# Altium integrated library Analog Devices Data Converters Analog-to-Digital Converters.IntLib: 2400 symbols (part 205 of 338)
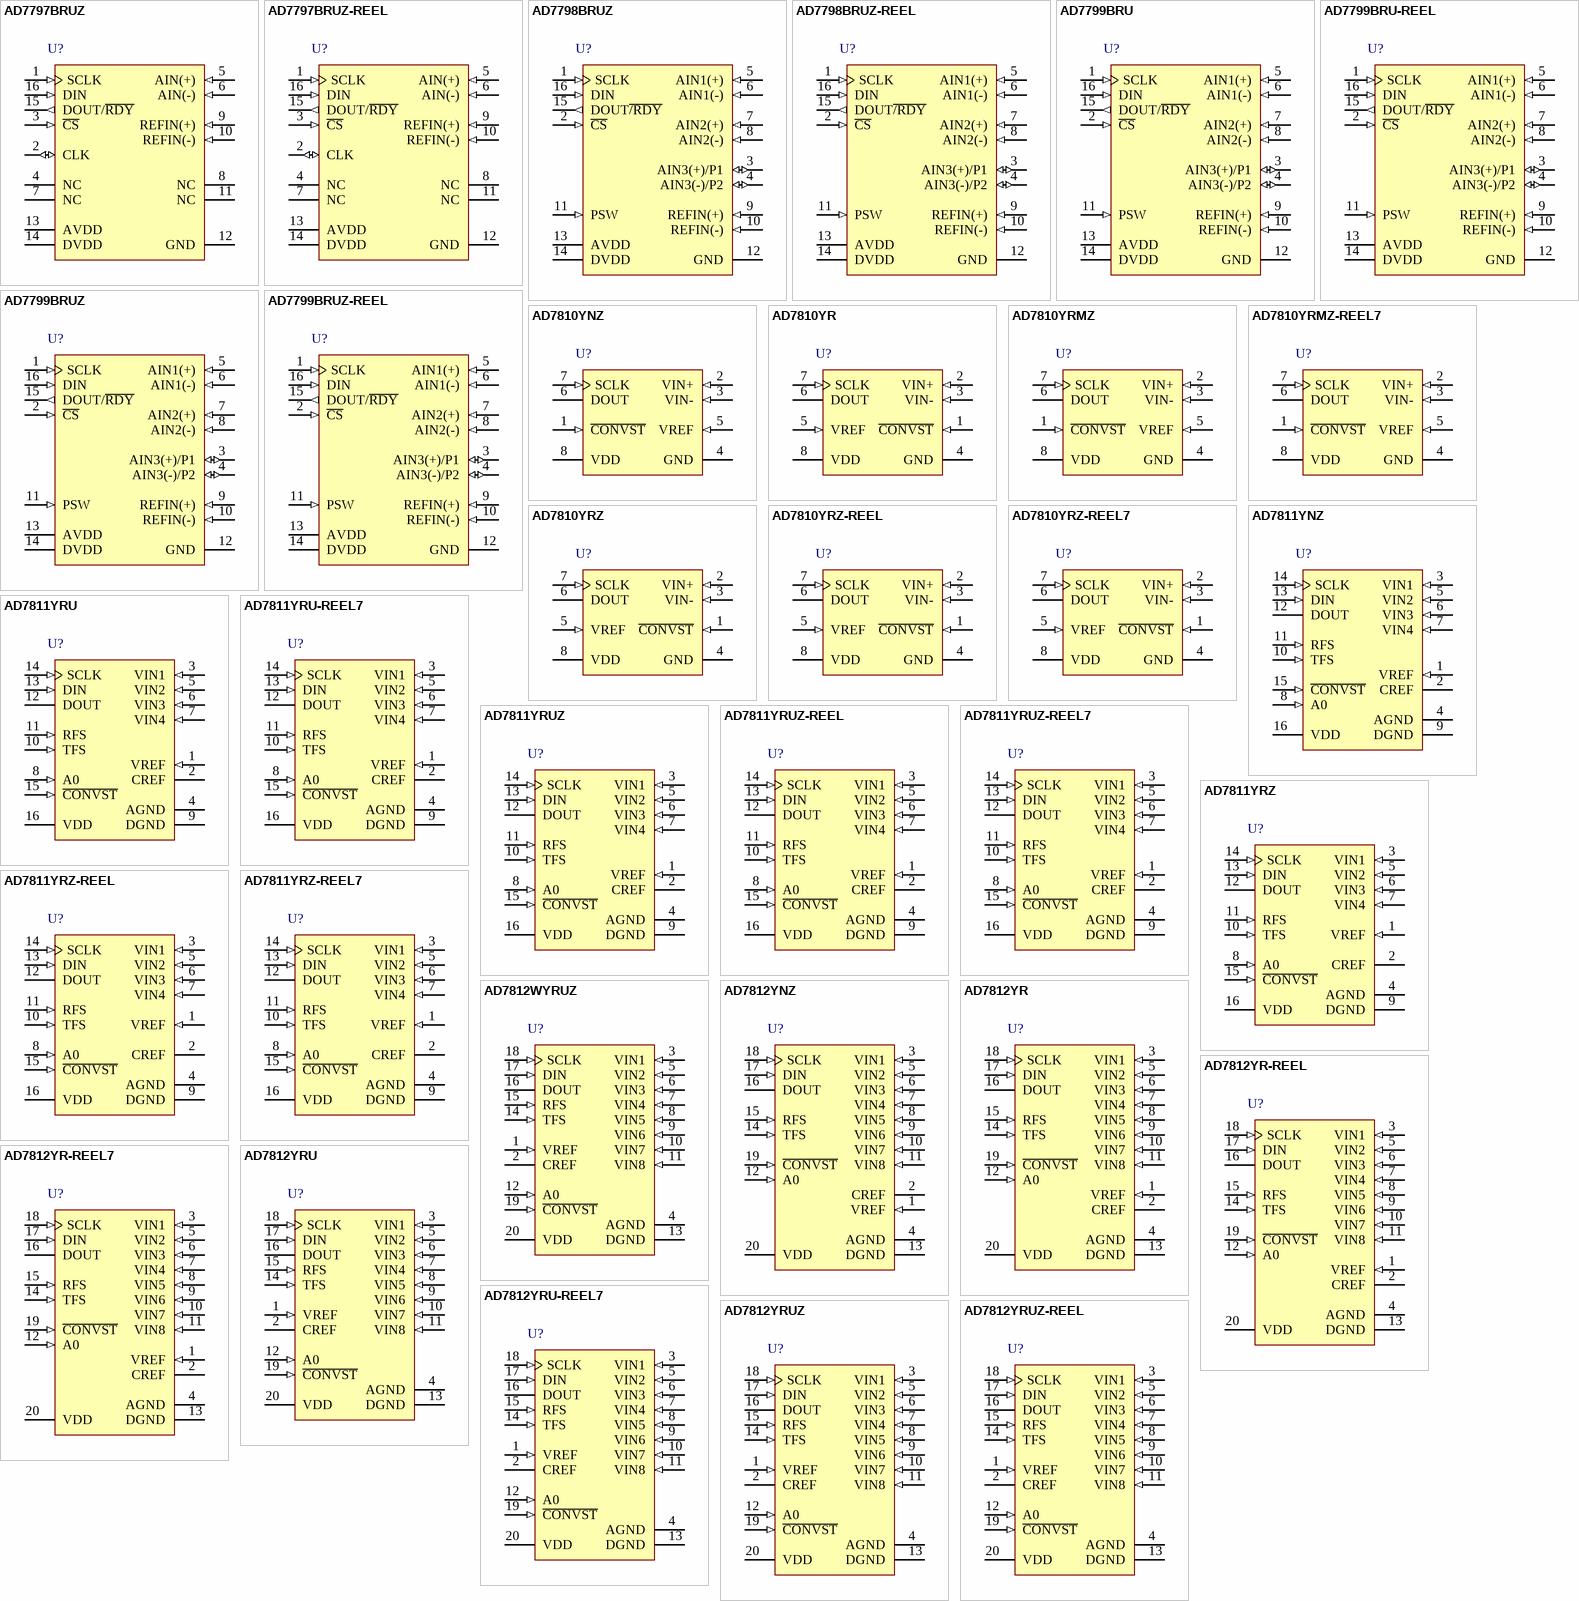
[diagram p268: symbols AD7797BRUZ to AD7812YRUZ-REEL]

## AD7811YRU
designator U?
Quad 10-Bit Sampling Analog-to-Digital Converter with Serial Interface, 2.7 V to 5.5 V, 350KSPS, -40 to +105 degC, RU-16, Tube; Part Number: AD7811; Manufacturer: Analog Devices; Resolution (Bits): 10; Channels: 4; Throughput Rate (SPS): 350K; Interface: Ser; DatasheetVersion: Rev.B; PackageVersion: Nov-2002; PackageReference: RU-16; PackageDescription: 16-Lead Thin Shrink Small Outline Package [TSSOP]; RoHS: N; Packing: Tube; Mounting Technology: Surface Mount; Code_JEDEC: MO-153-AB; ComponentLink1Description: Manufacturer URL; ComponentLink1URL: http://www.analog.com/en/index.html; ComponentLink2Description: Datasheet; ComponentLink2URL: http://www.analog.com/static/imported-files/data_sheets/AD7811_7812.pdf; ComponentLink3Description: Package Specification; ComponentLink3URL: http://www.analog.com/static/imported-files/packages/36244347913743854010197452789RU16.pdf; ComponentLink4Description: Product URL; ComponentLink4URL: http://www.analog.com/en/analog-to-digital-converters/ad-converters/ad7811/products/product.html
footprint RU-16_N (TSOP, 16-Leads, Body 5x4.4mm, Pitch 0.65mm, IPC Medium Density)
footprint RU-16_L (TSOP, 16-Leads, Body 5x4.4mm, Pitch 0.65mm, IPC High Density)
footprint RU-16_M (TSOP, 16-Leads, Body 5x4.4mm, Pitch 0.65mm, IPC Low Density)
pins: 1 VREF (in) "An external reference input can be applied here. When using an external precision reference or VDD the EXTREF bit in the control register must be set to logic one. The external reference input range is 1.2 V to VDD.", 2 CREF "Reference Capacitor. A capacitor (10 nF) is connected here to improve the noise performance of the on-chip reference.", 3 VIN1 (in) "Analog Inputs. The analog input range is 0 V to VREF.", 4 AGND (power) "Analog Ground. Ground reference for track/hold, comparator, on-chip reference and DAC.", 5 VIN2 (in) "Analog Inputs. The analog input range is 0 V to VREF.", 6 VIN3 (in) "Analog Inputs. The analog input range is 0 V to VREF.", 7 VIN4 (in) "Analog Inputs. The analog input range is 0 V to VREF.", 8 A0 (in) "Package Address Pin. This Logic Input can be hardwired high or low. When used in conjunction with the package address bit in the control register this input allows two devices to share the same serial bus. For example a (See Datasheet)", 9 DGND (power) "Digital Ground. Ground reference for digital circuitry.", 10 TFS (in) "Transmit Frame Sync. The falling edge of this Logic Input tells the part that a new control byte should be shifted in on the next 10 falling edges of SCLK.", 11 RFS (in) "Receive Frame Sync. The rising edge of this Logic Input is used to enable a counter in the serial interface. It is used to provide compatibility with DSPs which use a continuous serial clock and framing signal. In (See Datasheet)", 12 DOUT (hiz) "Serial Data Output. Serial data is shifted out on this pin on the rising edge of the serial clock. The output enters a High impedance condition on the rising edge of the 11th SCLK pulse.", 13 DIN (in) "Serial Data Input. The control byte is read in at this input. In order to complete a serial write operation 13 SCLK pulses need to be provided. Only the first 10 bits are shifted in--see Serial Interface section.", 14 SCLK (in) "Serial Clock Input. An external serial clock is applied to this input to obtain serial data from the AD7811/AD7812  and also to latch data into the AD7811/AD7812. Data is clocked out on the rising edge of SCLK and latched in (See Datasheet)", 15 ~{CONVST} (in) "Convert Start. This is an edge triggered logic input. The Track/Hold goes into its Hold Mode on the falling edge of this signal and a conversion is initiated. The state of this pin at the end of conversion also determines (See Datasheet)", 16 VDD (power) "Positive Supply Voltage 2.7 V to 5.5 V."

## AD7811YRU-REEL7
designator U?
Quad 10-Bit Sampling Analog-to-Digital Converter with Serial Interface, 2.7 V to 5.5 V, 350KSPS, -40 to +105 degC, RU-16, Reel; Part Number: AD7811; Manufacturer: Analog Devices; Resolution (Bits): 10; Channels: 4; Throughput Rate (SPS): 350K; Interface: Ser; DatasheetVersion: Rev.B; PackageVersion: Nov-2002; PackageReference: RU-16; PackageDescription: 16-Lead Thin Shrink Small Outline Package [TSSOP]; RoHS: N; Packing: Reel; Mounting Technology: Surface Mount; Code_JEDEC: MO-153-AB; ComponentLink1Description: Manufacturer URL; ComponentLink1URL: http://www.analog.com/en/index.html; ComponentLink2Description: Datasheet; ComponentLink2URL: http://www.analog.com/static/imported-files/data_sheets/AD7811_7812.pdf; ComponentLink3Description: Package Specification; ComponentLink3URL: http://www.analog.com/static/imported-files/packages/36244347913743854010197452789RU16.pdf; ComponentLink4Description: Product URL; ComponentLink4URL: http://www.analog.com/en/analog-to-digital-converters/ad-converters/ad7811/products/product.html
footprint RU-16_N (TSOP, 16-Leads, Body 5x4.4mm, Pitch 0.65mm, IPC Medium Density)
footprint RU-16_L (TSOP, 16-Leads, Body 5x4.4mm, Pitch 0.65mm, IPC High Density)
footprint RU-16_M (TSOP, 16-Leads, Body 5x4.4mm, Pitch 0.65mm, IPC Low Density)
pins: 1 VREF (in) "An external reference input can be applied here. When using an external precision reference or VDD the EXTREF bit in the control register must be set to logic one. The external reference input range is 1.2 V to VDD.", 2 CREF "Reference Capacitor. A capacitor (10 nF) is connected here to improve the noise performance of the on-chip reference.", 3 VIN1 (in) "Analog Inputs. The analog input range is 0 V to VREF.", 4 AGND (power) "Analog Ground. Ground reference for track/hold, comparator, on-chip reference and DAC.", 5 VIN2 (in) "Analog Inputs. The analog input range is 0 V to VREF.", 6 VIN3 (in) "Analog Inputs. The analog input range is 0 V to VREF.", 7 VIN4 (in) "Analog Inputs. The analog input range is 0 V to VREF.", 8 A0 (in) "Package Address Pin. This Logic Input can be hardwired high or low. When used in conjunction with the package address bit in the control register this input allows two devices to share the same serial bus. For example a (See Datasheet)", 9 DGND (power) "Digital Ground. Ground reference for digital circuitry.", 10 TFS (in) "Transmit Frame Sync. The falling edge of this Logic Input tells the part that a new control byte should be shifted in on the next 10 falling edges of SCLK.", 11 RFS (in) "Receive Frame Sync. The rising edge of this Logic Input is used to enable a counter in the serial interface. It is used to provide compatibility with DSPs which use a continuous serial clock and framing signal. In (See Datasheet)", 12 DOUT (hiz) "Serial Data Output. Serial data is shifted out on this pin on the rising edge of the serial clock. The output enters a High impedance condition on the rising edge of the 11th SCLK pulse.", 13 DIN (in) "Serial Data Input. The control byte is read in at this input. In order to complete a serial write operation 13 SCLK pulses need to be provided. Only the first 10 bits are shifted in--see Serial Interface section.", 14 SCLK (in) "Serial Clock Input. An external serial clock is applied to this input to obtain serial data from the AD7811/AD7812  and also to latch data into the AD7811/AD7812. Data is clocked out on the rising edge of SCLK and latched in (See Datasheet)", 15 ~{CONVST} (in) "Convert Start. This is an edge triggered logic input. The Track/Hold goes into its Hold Mode on the falling edge of this signal and a conversion is initiated. The state of this pin at the end of conversion also determines (See Datasheet)", 16 VDD (power) "Positive Supply Voltage 2.7 V to 5.5 V."

## AD7811YRUZ
designator U?
Quad 10-Bit Sampling Analog-to-Digital Converter with Serial Interface, 2.7 V to 5.5 V, 350KSPS, -40 to +105 degC, RU-16, Pb-Free, Tube; Part Number: AD7811; Manufacturer: Analog Devices; Resolution (Bits): 10; Channels: 4; Throughput Rate (SPS): 350K; Interface: Ser; DatasheetVersion: Rev.B; PackageVersion: Nov-2002; PackageReference: RU-16; PackageDescription: 16-Lead Thin Shrink Small Outline Package [TSSOP]; RoHS: Y; Packing: Tube; Mounting Technology: Surface Mount; Code_JEDEC: MO-153-AB; ComponentLink1Description: Manufacturer URL; ComponentLink1URL: http://www.analog.com/en/index.html; ComponentLink2Description: Datasheet; ComponentLink2URL: http://www.analog.com/static/imported-files/data_sheets/AD7811_7812.pdf; ComponentLink3Description: Package Specification; ComponentLink3URL: http://www.analog.com/static/imported-files/packages/36244347913743854010197452789RU16.pdf; ComponentLink4Description: Product URL; ComponentLink4URL: http://www.analog.com/en/analog-to-digital-converters/ad-converters/ad7811/products/product.html
footprint RU-16_N (TSOP, 16-Leads, Body 5x4.4mm, Pitch 0.65mm, IPC Medium Density)
footprint RU-16_L (TSOP, 16-Leads, Body 5x4.4mm, Pitch 0.65mm, IPC High Density)
footprint RU-16_M (TSOP, 16-Leads, Body 5x4.4mm, Pitch 0.65mm, IPC Low Density)
pins: 1 VREF (in) "An external reference input can be applied here. When using an external precision reference or VDD the EXTREF bit in the control register must be set to logic one. The external reference input range is 1.2 V to VDD.", 2 CREF "Reference Capacitor. A capacitor (10 nF) is connected here to improve the noise performance of the on-chip reference.", 3 VIN1 (in) "Analog Inputs. The analog input range is 0 V to VREF.", 4 AGND (power) "Analog Ground. Ground reference for track/hold, comparator, on-chip reference and DAC.", 5 VIN2 (in) "Analog Inputs. The analog input range is 0 V to VREF.", 6 VIN3 (in) "Analog Inputs. The analog input range is 0 V to VREF.", 7 VIN4 (in) "Analog Inputs. The analog input range is 0 V to VREF.", 8 A0 (in) "Package Address Pin. This Logic Input can be hardwired high or low. When used in conjunction with the package address bit in the control register this input allows two devices to share the same serial bus. For example a (See Datasheet)", 9 DGND (power) "Digital Ground. Ground reference for digital circuitry.", 10 TFS (in) "Transmit Frame Sync. The falling edge of this Logic Input tells the part that a new control byte should be shifted in on the next 10 falling edges of SCLK.", 11 RFS (in) "Receive Frame Sync. The rising edge of this Logic Input is used to enable a counter in the serial interface. It is used to provide compatibility with DSPs which use a continuous serial clock and framing signal. In (See Datasheet)", 12 DOUT (hiz) "Serial Data Output. Serial data is shifted out on this pin on the rising edge of the serial clock. The output enters a High impedance condition on the rising edge of the 11th SCLK pulse.", 13 DIN (in) "Serial Data Input. The control byte is read in at this input. In order to complete a serial write operation 13 SCLK pulses need to be provided. Only the first 10 bits are shifted in--see Serial Interface section.", 14 SCLK (in) "Serial Clock Input. An external serial clock is applied to this input to obtain serial data from the AD7811/AD7812  and also to latch data into the AD7811/AD7812. Data is clocked out on the rising edge of SCLK and latched in (See Datasheet)", 15 ~{CONVST} (in) "Convert Start. This is an edge triggered logic input. The Track/Hold goes into its Hold Mode on the falling edge of this signal and a conversion is initiated. The state of this pin at the end of conversion also determines (See Datasheet)", 16 VDD (power) "Positive Supply Voltage 2.7 V to 5.5 V."

## AD7811YRUZ-REEL
designator U?
Quad 10-Bit Sampling Analog-to-Digital Converter with Serial Interface, 2.7 V to 5.5 V, 350KSPS, -40 to +105 degC, RU-16, Pb-Free, Reel; Part Number: AD7811; Manufacturer: Analog Devices; Resolution (Bits): 10; Channels: 4; Throughput Rate (SPS): 350K; Interface: Ser; DatasheetVersion: Rev.B; PackageVersion: Nov-2002; PackageReference: RU-16; PackageDescription: 16-Lead Thin Shrink Small Outline Package [TSSOP]; RoHS: Y; Packing: Reel; Mounting Technology: Surface Mount; Code_JEDEC: MO-153-AB; ComponentLink1Description: Manufacturer URL; ComponentLink1URL: http://www.analog.com/en/index.html; ComponentLink2Description: Datasheet; ComponentLink2URL: http://www.analog.com/static/imported-files/data_sheets/AD7811_7812.pdf; ComponentLink3Description: Package Specification; ComponentLink3URL: http://www.analog.com/static/imported-files/packages/36244347913743854010197452789RU16.pdf; ComponentLink4Description: Product URL; ComponentLink4URL: http://www.analog.com/en/analog-to-digital-converters/ad-converters/ad7811/products/product.html
footprint RU-16_N (TSOP, 16-Leads, Body 5x4.4mm, Pitch 0.65mm, IPC Medium Density)
footprint RU-16_L (TSOP, 16-Leads, Body 5x4.4mm, Pitch 0.65mm, IPC High Density)
footprint RU-16_M (TSOP, 16-Leads, Body 5x4.4mm, Pitch 0.65mm, IPC Low Density)
pins: 1 VREF (in) "An external reference input can be applied here. When using an external precision reference or VDD the EXTREF bit in the control register must be set to logic one. The external reference input range is 1.2 V to VDD.", 2 CREF "Reference Capacitor. A capacitor (10 nF) is connected here to improve the noise performance of the on-chip reference.", 3 VIN1 (in) "Analog Inputs. The analog input range is 0 V to VREF.", 4 AGND (power) "Analog Ground. Ground reference for track/hold, comparator, on-chip reference and DAC.", 5 VIN2 (in) "Analog Inputs. The analog input range is 0 V to VREF.", 6 VIN3 (in) "Analog Inputs. The analog input range is 0 V to VREF.", 7 VIN4 (in) "Analog Inputs. The analog input range is 0 V to VREF.", 8 A0 (in) "Package Address Pin. This Logic Input can be hardwired high or low. When used in conjunction with the package address bit in the control register this input allows two devices to share the same serial bus. For example a (See Datasheet)", 9 DGND (power) "Digital Ground. Ground reference for digital circuitry.", 10 TFS (in) "Transmit Frame Sync. The falling edge of this Logic Input tells the part that a new control byte should be shifted in on the next 10 falling edges of SCLK.", 11 RFS (in) "Receive Frame Sync. The rising edge of this Logic Input is used to enable a counter in the serial interface. It is used to provide compatibility with DSPs which use a continuous serial clock and framing signal. In (See Datasheet)", 12 DOUT (hiz) "Serial Data Output. Serial data is shifted out on this pin on the rising edge of the serial clock. The output enters a High impedance condition on the rising edge of the 11th SCLK pulse.", 13 DIN (in) "Serial Data Input. The control byte is read in at this input. In order to complete a serial write operation 13 SCLK pulses need to be provided. Only the first 10 bits are shifted in--see Serial Interface section.", 14 SCLK (in) "Serial Clock Input. An external serial clock is applied to this input to obtain serial data from the AD7811/AD7812  and also to latch data into the AD7811/AD7812. Data is clocked out on the rising edge of SCLK and latched in (See Datasheet)", 15 ~{CONVST} (in) "Convert Start. This is an edge triggered logic input. The Track/Hold goes into its Hold Mode on the falling edge of this signal and a conversion is initiated. The state of this pin at the end of conversion also determines (See Datasheet)", 16 VDD (power) "Positive Supply Voltage 2.7 V to 5.5 V."

## AD7811YRUZ-REEL7
designator U?
Quad 10-Bit Sampling Analog-to-Digital Converter with Serial Interface, 2.7 V to 5.5 V, 350KSPS, -40 to +105 degC, RU-16, Pb-Free, Reel; Part Number: AD7811; Manufacturer: Analog Devices; Resolution (Bits): 10; Channels: 4; Throughput Rate (SPS): 350K; Interface: Ser; DatasheetVersion: Rev.B; PackageVersion: Nov-2002; PackageReference: RU-16; PackageDescription: 16-Lead Thin Shrink Small Outline Package [TSSOP]; RoHS: Y; Packing: Reel; Mounting Technology: Surface Mount; Code_JEDEC: MO-153-AB; ComponentLink1Description: Manufacturer URL; ComponentLink1URL: http://www.analog.com/en/index.html; ComponentLink2Description: Datasheet; ComponentLink2URL: http://www.analog.com/static/imported-files/data_sheets/AD7811_7812.pdf; ComponentLink3Description: Package Specification; ComponentLink3URL: http://www.analog.com/static/imported-files/packages/36244347913743854010197452789RU16.pdf; ComponentLink4Description: Product URL; ComponentLink4URL: http://www.analog.com/en/analog-to-digital-converters/ad-converters/ad7811/products/product.html
footprint RU-16_N (TSOP, 16-Leads, Body 5x4.4mm, Pitch 0.65mm, IPC Medium Density)
footprint RU-16_L (TSOP, 16-Leads, Body 5x4.4mm, Pitch 0.65mm, IPC High Density)
footprint RU-16_M (TSOP, 16-Leads, Body 5x4.4mm, Pitch 0.65mm, IPC Low Density)
pins: 1 VREF (in) "An external reference input can be applied here. When using an external precision reference or VDD the EXTREF bit in the control register must be set to logic one. The external reference input range is 1.2 V to VDD.", 2 CREF "Reference Capacitor. A capacitor (10 nF) is connected here to improve the noise performance of the on-chip reference.", 3 VIN1 (in) "Analog Inputs. The analog input range is 0 V to VREF.", 4 AGND (power) "Analog Ground. Ground reference for track/hold, comparator, on-chip reference and DAC.", 5 VIN2 (in) "Analog Inputs. The analog input range is 0 V to VREF.", 6 VIN3 (in) "Analog Inputs. The analog input range is 0 V to VREF.", 7 VIN4 (in) "Analog Inputs. The analog input range is 0 V to VREF.", 8 A0 (in) "Package Address Pin. This Logic Input can be hardwired high or low. When used in conjunction with the package address bit in the control register this input allows two devices to share the same serial bus. For example a (See Datasheet)", 9 DGND (power) "Digital Ground. Ground reference for digital circuitry.", 10 TFS (in) "Transmit Frame Sync. The falling edge of this Logic Input tells the part that a new control byte should be shifted in on the next 10 falling edges of SCLK.", 11 RFS (in) "Receive Frame Sync. The rising edge of this Logic Input is used to enable a counter in the serial interface. It is used to provide compatibility with DSPs which use a continuous serial clock and framing signal. In (See Datasheet)", 12 DOUT (hiz) "Serial Data Output. Serial data is shifted out on this pin on the rising edge of the serial clock. The output enters a High impedance condition on the rising edge of the 11th SCLK pulse.", 13 DIN (in) "Serial Data Input. The control byte is read in at this input. In order to complete a serial write operation 13 SCLK pulses need to be provided. Only the first 10 bits are shifted in--see Serial Interface section.", 14 SCLK (in) "Serial Clock Input. An external serial clock is applied to this input to obtain serial data from the AD7811/AD7812  and also to latch data into the AD7811/AD7812. Data is clocked out on the rising edge of SCLK and latched in (See Datasheet)", 15 ~{CONVST} (in) "Convert Start. This is an edge triggered logic input. The Track/Hold goes into its Hold Mode on the falling edge of this signal and a conversion is initiated. The state of this pin at the end of conversion also determines (See Datasheet)", 16 VDD (power) "Positive Supply Voltage 2.7 V to 5.5 V."

## AD7811YRZ
designator U?
Quad 10-Bit Sampling Analog-to-Digital Converter with Serial Interface, 2.7 V to 5.5 V, 350KSPS, -40 to +105 degC, R-16, Pb-Free, Tube; Part Number: AD7811; Manufacturer: Analog Devices; Resolution (Bits): 10; Channels: 4; Throughput Rate (SPS): 350K; Interface: Ser; DatasheetVersion: Rev.B; PackageVersion: 060606-A; PackageReference: R-16; PackageDescription: 16-Lead Standard Small Outline Package [SOIC_N] Narrow Body; RoHS: Y; Packing: Tube; Mounting Technology: Surface Mount; Code_JEDEC: MS-012-AC; ComponentLink1Description: Manufacturer URL; ComponentLink1URL: http://www.analog.com/en/index.html; ComponentLink2Description: Datasheet; ComponentLink2URL: http://www.analog.com/static/imported-files/data_sheets/AD7811_7812.pdf; ComponentLink3Description: Package Specification; ComponentLink3URL: http://www.analog.com/static/imported-files/packages/PKG_PDF/SOIC_Narrow%20(R)/R_16.pdf; ComponentLink4Description: Product URL; ComponentLink4URL: http://www.analog.com/en/analog-to-digital-converters/ad-converters/ad7811/products/product.html
footprint R-16_N (SOIC, 16-Leads, Body 9.9x3.9mm, Pitch 1.27mm, IPC Medium Density)
footprint R-16_L (SOIC, 16-Leads, Body 9.9x3.9mm, Pitch 1.27mm, IPC High Density)
footprint R-16_M (SOIC, 16-Leads, Body 9.9x3.9mm, Pitch 1.27mm, IPC Low Density)
pins: 1 VREF (in) "An external reference input can be applied here. When using an external precision reference or VDD the EXTREF bit in the control register must be set to logic one. The external reference input range is 1.2 V to VDD.", 2 CREF "Reference Capacitor. A capacitor (10 nF) is connected here to improve the noise performance of the on-chip reference.", 3 VIN1 (in) "Analog Inputs. The analog input range is 0 V to VREF.", 4 AGND (power) "Analog Ground. Ground reference for track/hold, comparator, on-chip reference and DAC.", 5 VIN2 (in) "Analog Inputs. The analog input range is 0 V to VREF.", 6 VIN3 (in) "Analog Inputs. The analog input range is 0 V to VREF.", 7 VIN4 (in) "Analog Inputs. The analog input range is 0 V to VREF.", 8 A0 (in) "Package Address Pin. This Logic Input can be hardwired high or low. When used in conjunction with the package address bit in the control register this input allows two devices to share the same serial bus. For example a (See Datasheet)", 9 DGND (power) "Digital Ground. Ground reference for digital circuitry.", 10 TFS (in) "Transmit Frame Sync. The falling edge of this Logic Input tells the part that a new control byte should be shifted in on the next 10 falling edges of SCLK.", 11 RFS (in) "Receive Frame Sync. The rising edge of this Logic Input is used to enable a counter in the serial interface. It is used to provide compatibility with DSPs which use a continuous serial clock and framing signal. In (See Datasheet)", 12 DOUT (hiz) "Serial Data Output. Serial data is shifted out on this pin on the rising edge of the serial clock. The output enters a High impedance condition on the rising edge of the 11th SCLK pulse.", 13 DIN (in) "Serial Data Input. The control byte is read in at this input. In order to complete a serial write operation 13 SCLK pulses need to be provided. Only the first 10 bits are shifted in--see Serial Interface section.", 14 SCLK (in) "Serial Clock Input. An external serial clock is applied to this input to obtain serial data from the AD7811/AD7812  and also to latch data into the AD7811/AD7812. Data is clocked out on the rising edge of SCLK and latched in (See Datasheet)", 15 ~{CONVST} (in) "Convert Start. This is an edge triggered logic input. The Track/Hold goes into its Hold Mode on the falling edge of this signal and a conversion is initiated. The state of this pin at the end of conversion also determines (See Datasheet)", 16 VDD (power) "Positive Supply Voltage 2.7 V to 5.5 V."

## AD7811YRZ-REEL
designator U?
Quad 10-Bit Sampling Analog-to-Digital Converter with Serial Interface, 2.7 V to 5.5 V, 350KSPS, -40 to +105 degC, R-16, Pb-Free, Reel; Part Number: AD7811; Manufacturer: Analog Devices; Resolution (Bits): 10; Channels: 4; Throughput Rate (SPS): 350K; Interface: Ser; DatasheetVersion: Rev.B; PackageVersion: 060606-A; PackageReference: R-16; PackageDescription: 16-Lead Standard Small Outline Package [SOIC_N] Narrow Body; RoHS: Y; Packing: Reel; Mounting Technology: Surface Mount; Code_JEDEC: MS-012-AC; ComponentLink1Description: Manufacturer URL; ComponentLink1URL: http://www.analog.com/en/index.html; ComponentLink2Description: Datasheet; ComponentLink2URL: http://www.analog.com/static/imported-files/data_sheets/AD7811_7812.pdf; ComponentLink3Description: Package Specification; ComponentLink3URL: http://www.analog.com/static/imported-files/packages/PKG_PDF/SOIC_Narrow%20(R)/R_16.pdf; ComponentLink4Description: Product URL; ComponentLink4URL: http://www.analog.com/en/analog-to-digital-converters/ad-converters/ad7811/products/product.html
footprint R-16_N (SOIC, 16-Leads, Body 9.9x3.9mm, Pitch 1.27mm, IPC Medium Density)
footprint R-16_L (SOIC, 16-Leads, Body 9.9x3.9mm, Pitch 1.27mm, IPC High Density)
footprint R-16_M (SOIC, 16-Leads, Body 9.9x3.9mm, Pitch 1.27mm, IPC Low Density)
pins: 1 VREF (in) "An external reference input can be applied here. When using an external precision reference or VDD the EXTREF bit in the control register must be set to logic one. The external reference input range is 1.2 V to VDD.", 2 CREF "Reference Capacitor. A capacitor (10 nF) is connected here to improve the noise performance of the on-chip reference.", 3 VIN1 (in) "Analog Inputs. The analog input range is 0 V to VREF.", 4 AGND (power) "Analog Ground. Ground reference for track/hold, comparator, on-chip reference and DAC.", 5 VIN2 (in) "Analog Inputs. The analog input range is 0 V to VREF.", 6 VIN3 (in) "Analog Inputs. The analog input range is 0 V to VREF.", 7 VIN4 (in) "Analog Inputs. The analog input range is 0 V to VREF.", 8 A0 (in) "Package Address Pin. This Logic Input can be hardwired high or low. When used in conjunction with the package address bit in the control register this input allows two devices to share the same serial bus. For example a (See Datasheet)", 9 DGND (power) "Digital Ground. Ground reference for digital circuitry.", 10 TFS (in) "Transmit Frame Sync. The falling edge of this Logic Input tells the part that a new control byte should be shifted in on the next 10 falling edges of SCLK.", 11 RFS (in) "Receive Frame Sync. The rising edge of this Logic Input is used to enable a counter in the serial interface. It is used to provide compatibility with DSPs which use a continuous serial clock and framing signal. In (See Datasheet)", 12 DOUT (hiz) "Serial Data Output. Serial data is shifted out on this pin on the rising edge of the serial clock. The output enters a High impedance condition on the rising edge of the 11th SCLK pulse.", 13 DIN (in) "Serial Data Input. The control byte is read in at this input. In order to complete a serial write operation 13 SCLK pulses need to be provided. Only the first 10 bits are shifted in--see Serial Interface section.", 14 SCLK (in) "Serial Clock Input. An external serial clock is applied to this input to obtain serial data from the AD7811/AD7812  and also to latch data into the AD7811/AD7812. Data is clocked out on the rising edge of SCLK and latched in (See Datasheet)", 15 ~{CONVST} (in) "Convert Start. This is an edge triggered logic input. The Track/Hold goes into its Hold Mode on the falling edge of this signal and a conversion is initiated. The state of this pin at the end of conversion also determines (See Datasheet)", 16 VDD (power) "Positive Supply Voltage 2.7 V to 5.5 V."

## AD7811YRZ-REEL7
designator U?
Quad 10-Bit Sampling Analog-to-Digital Converter with Serial Interface, 2.7 V to 5.5 V, 350KSPS, -40 to +105 degC, R-16, Pb-Free, Reel; Part Number: AD7811; Manufacturer: Analog Devices; Resolution (Bits): 10; Channels: 4; Throughput Rate (SPS): 350K; Interface: Ser; DatasheetVersion: Rev.B; PackageVersion: 060606-A; PackageReference: R-16; PackageDescription: 16-Lead Standard Small Outline Package [SOIC_N] Narrow Body; RoHS: Y; Packing: Reel; Mounting Technology: Surface Mount; Code_JEDEC: MS-012-AC; ComponentLink1Description: Manufacturer URL; ComponentLink1URL: http://www.analog.com/en/index.html; ComponentLink2Description: Datasheet; ComponentLink2URL: http://www.analog.com/static/imported-files/data_sheets/AD7811_7812.pdf; ComponentLink3Description: Package Specification; ComponentLink3URL: http://www.analog.com/static/imported-files/packages/PKG_PDF/SOIC_Narrow%20(R)/R_16.pdf; ComponentLink4Description: Product URL; ComponentLink4URL: http://www.analog.com/en/analog-to-digital-converters/ad-converters/ad7811/products/product.html
footprint R-16_N (SOIC, 16-Leads, Body 9.9x3.9mm, Pitch 1.27mm, IPC Medium Density)
footprint R-16_L (SOIC, 16-Leads, Body 9.9x3.9mm, Pitch 1.27mm, IPC High Density)
footprint R-16_M (SOIC, 16-Leads, Body 9.9x3.9mm, Pitch 1.27mm, IPC Low Density)
pins: 1 VREF (in) "An external reference input can be applied here. When using an external precision reference or VDD the EXTREF bit in the control register must be set to logic one. The external reference input range is 1.2 V to VDD.", 2 CREF "Reference Capacitor. A capacitor (10 nF) is connected here to improve the noise performance of the on-chip reference.", 3 VIN1 (in) "Analog Inputs. The analog input range is 0 V to VREF.", 4 AGND (power) "Analog Ground. Ground reference for track/hold, comparator, on-chip reference and DAC.", 5 VIN2 (in) "Analog Inputs. The analog input range is 0 V to VREF.", 6 VIN3 (in) "Analog Inputs. The analog input range is 0 V to VREF.", 7 VIN4 (in) "Analog Inputs. The analog input range is 0 V to VREF.", 8 A0 (in) "Package Address Pin. This Logic Input can be hardwired high or low. When used in conjunction with the package address bit in the control register this input allows two devices to share the same serial bus. For example a (See Datasheet)", 9 DGND (power) "Digital Ground. Ground reference for digital circuitry.", 10 TFS (in) "Transmit Frame Sync. The falling edge of this Logic Input tells the part that a new control byte should be shifted in on the next 10 falling edges of SCLK.", 11 RFS (in) "Receive Frame Sync. The rising edge of this Logic Input is used to enable a counter in the serial interface. It is used to provide compatibility with DSPs which use a continuous serial clock and framing signal. In (See Datasheet)", 12 DOUT (hiz) "Serial Data Output. Serial data is shifted out on this pin on the rising edge of the serial clock. The output enters a High impedance condition on the rising edge of the 11th SCLK pulse.", 13 DIN (in) "Serial Data Input. The control byte is read in at this input. In order to complete a serial write operation 13 SCLK pulses need to be provided. Only the first 10 bits are shifted in--see Serial Interface section.", 14 SCLK (in) "Serial Clock Input. An external serial clock is applied to this input to obtain serial data from the AD7811/AD7812  and also to latch data into the AD7811/AD7812. Data is clocked out on the rising edge of SCLK and latched in (See Datasheet)", 15 ~{CONVST} (in) "Convert Start. This is an edge triggered logic input. The Track/Hold goes into its Hold Mode on the falling edge of this signal and a conversion is initiated. The state of this pin at the end of conversion also determines (See Datasheet)", 16 VDD (power) "Positive Supply Voltage 2.7 V to 5.5 V."

## AD7812WYRUZ
designator U?
Octal 10-Bit Sampling Analog-to-Digital Converter with Serial Interface, 2.7 V to 5.5 V, 350KSPS, -40 to +105 degC, RU-20, Pb-Free, Tube; Part Number: AD7812; Manufacturer: Analog Devices; Resolution (Bits): 10; Channels: 8; Throughput Rate (SPS): 350K; Interface: Ser; Automotive Qualified: Yes; DatasheetVersion: Rev.B; PackageVersion: 2000; PackageReference: RU-20; PackageDescription: 20-Lead Thin Shrink Small Outline Package [TSSOP]; RoHS: Y; Packing: Tube; Mounting Technology: Surface Mount; Code_JEDEC: MO-153AC; ComponentLink1Description: Manufacturer URL; ComponentLink1URL: http://www.analog.com/en/index.html; ComponentLink2Description: Datasheet; ComponentLink2URL: http://www.analog.com/static/imported-files/data_sheets/AD7811_7812.pdf; ComponentLink3Description: Package Specification; ComponentLink3URL: http://www.analog.com/static/imported-files/packages/364515793657813558433715854054607941441RU20.pdf; ComponentLink4Description: Product URL; ComponentLink4URL: http://www.analog.com/en/analog-to-digital-converters/ad-converters/ad7812/products/product.html
footprint RU-20_N (TSOP, 20-Leads, Body 6.5x4.4mm, Pitch 0.65mm, IPC Medium Density)
footprint RU-20_L (TSOP, 20-Leads, Body 6.5x4.4mm, Pitch 0.65mm, IPC High Density)
footprint RU-20_M (TSOP, 20-Leads, Body 6.5x4.4mm, Pitch 0.65mm, IPC Low Density)
pins: 1 VREF (in) "An external reference input can be applied here. When using an external precision reference or VDD the EXTREF bit in the control register must be set to logic one. The external reference input range is 1.2 V to VDD.", 2 CREF "Reference Capacitor. A capacitor (10 nF) is connected here to improve the noise performance of the on-chip reference.", 3 VIN1 (in) "Analog Inputs. The analog input range is 0 V to VREF.", 4 AGND (power) "Analog Ground. Ground reference for track/hold, comparator, on-chip reference and DAC.", 5 VIN2 (in) "Analog Inputs. The analog input range is 0 V to VREF.", 6 VIN3 (in) "Analog Inputs. The analog input range is 0 V to VREF.", 7 VIN4 (in) "Analog Inputs. The analog input range is 0 V to VREF.", 8 VIN5 (in) "Analog Inputs. The analog input range is 0 V to VREF.", 9 VIN6 (in) "Analog Inputs. The analog input range is 0 V to VREF.", 10 VIN7 (in) "Analog Inputs. The analog input range is 0 V to VREF.", 11 VIN8 (in) "Analog Inputs. The analog input range is 0 V to VREF.", 12 A0 (in) "Package Address Pin. This Logic Input can be hardwired high or low. When used in conjunction with the package address bit in the control register this input allows two devices to share the same serial bus. For example a (See Datasheet)", 13 DGND (power) "Digital Ground. Ground reference for digital circuitry.", 14 TFS (in) "Transmit Frame Sync. The falling edge of this Logic Input tells the part that a new control byte should be shifted in on the next 10 falling edges of SCLK.", 15 RFS (in) "Receive Frame Sync. The rising edge of this Logic Input is used to enable a counter in the serial interface. It is used to provide compatibility with DSPs which use a continuous serial clock and framing signal. In (See Datasheet)", 16 DOUT (hiz) "Serial Data Output. Serial data is shifted out on this pin on the rising edge of the serial clock. The output enters a High impedance condition on the rising edge of the 11th SCLK pulse.", 17 DIN (in) "Serial Data Input. The control byte is read in at this input. In order to complete a serial write operation 13 SCLK pulses need to be provided. Only the first 10 bits are shifted in--see Serial Interface section.", 18 SCLK (in) "Serial Clock Input. An external serial clock is applied to this input to obtain serial data from the AD7811/AD7812 and also to latch data into the AD7811/AD7812. Data is clocked out on the rising edge of SCLK and latched in (See Datasheet)", 19 ~{CONVST} (in) "Convert Start. This is an edge triggered logic input. The Track/Hold goes into its Hold Mode on the falling edge of this signal and a conversion is initiated. The state of this pin at the end of conversion also determines (See Datasheet)", 20 VDD (power) "Positive Supply Voltage 2.7 V to 5.5 V."

## AD7812YNZ
designator U?
Octal 10-Bit Sampling Analog-to-Digital Converter with Serial Interface, 2.7 V to 5.5 V, 350KSPS, -40 to +105 degC, N-20, Pb-Free, Tube; Part Number: AD7812; Manufacturer: Analog Devices; Resolution (Bits): 10; Channels: 8; Throughput Rate (SPS): 350K; Interface: Ser; Automotive Qualified: Yes; DatasheetVersion: Rev.B; PackageVersion: 070706-A; PackageReference: N-20; PackageDescription: 20-Lead Plastic Dual In-Line Package [PDIP] Narrow Body; RoHS: Y; Packing: Tube; Mounting Technology: Through-hole; Code_JEDEC: MS-001; ComponentLink1Description: Manufacturer URL; ComponentLink1URL: http://www.analog.com/en/index.html; ComponentLink2Description: Datasheet; ComponentLink2URL: http://www.analog.com/static/imported-files/data_sheets/AD7811_7812.pdf; ComponentLink3Description: Package Specification; ComponentLink3URL: http://www.analog.com/static/imported-files/packages/50601349676519N_20.pdf; ComponentLink4Description: Product URL; ComponentLink4URL: http://www.analog.com/en/analog-to-digital-converters/ad-converters/ad7812/products/product.html
footprint N-20 (DIP, 20-Leads, Row Spacing 7.62mm, Pitch 2.54mm, Body 25.9x6.6mm)
pins: 1 VREF (in) "An external reference input can be applied here. When using an external precision reference or VDD the EXTREF bit in the control register must be set to logic one. The external reference input range is 1.2 V to VDD.", 2 CREF "Reference Capacitor. A capacitor (10 nF) is connected here to improve the noise performance of the on-chip reference.", 3 VIN1 (in) "Analog Inputs. The analog input range is 0 V to VREF.", 4 AGND (power) "Analog Ground. Ground reference for track/hold, comparator, on-chip reference and DAC.", 5 VIN2 (in) "Analog Inputs. The analog input range is 0 V to VREF.", 6 VIN3 (in) "Analog Inputs. The analog input range is 0 V to VREF.", 7 VIN4 (in) "Analog Inputs. The analog input range is 0 V to VREF.", 8 VIN5 (in) "Analog Inputs. The analog input range is 0 V to VREF.", 9 VIN6 (in) "Analog Inputs. The analog input range is 0 V to VREF.", 10 VIN7 (in) "Analog Inputs. The analog input range is 0 V to VREF.", 11 VIN8 (in) "Analog Inputs. The analog input range is 0 V to VREF.", 12 A0 (in) "Package Address Pin. This Logic Input can be hardwired high or low. When used in conjunction with the package address bit in the control register this input allows two devices to share the same serial bus. For example a (See Datasheet)", 13 DGND (power) "Digital Ground. Ground reference for digital circuitry.", 14 TFS (in) "Transmit Frame Sync. The falling edge of this Logic Input tells the part that a new control byte should be shifted in on the next 10 falling edges of SCLK.", 15 RFS (in) "Receive Frame Sync. The rising edge of this Logic Input is used to enable a counter in the serial interface. It is used to provide compatibility with DSPs which use a continuous serial clock and framing signal. In (See Datasheet)", 16 DOUT (hiz) "Serial Data Output. Serial data is shifted out on this pin on the rising edge of the serial clock. The output enters a High impedance condition on the rising edge of the 11th SCLK pulse.", 17 DIN (in) "Serial Data Input. The control byte is read in at this input. In order to complete a serial write operation 13 SCLK pulses need to be provided. Only the first 10 bits are shifted in--see Serial Interface section.", 18 SCLK (in) "Serial Clock Input. An external serial clock is applied to this input to obtain serial data from the AD7811/AD7812 and also to latch data into the AD7811/AD7812. Data is clocked out on the rising edge of SCLK and latched in (See Datasheet)", 19 ~{CONVST} (in) "Convert Start. This is an edge triggered logic input. The Track/Hold goes into its Hold Mode on the falling edge of this signal and a conversion is initiated. The state of this pin at the end of conversion also determines (See Datasheet)", 20 VDD (power) "Positive Supply Voltage 2.7 V to 5.5 V."

## AD7812YR
designator U?
Octal 10-Bit Sampling Analog-to-Digital Converter with Serial Interface, 2.7 V to 5.5 V, 350KSPS, -40 to +105 degC, RW-20, Tube; Part Number: AD7812; Manufacturer: Analog Devices; Resolution (Bits): 10; Channels: 8; Throughput Rate (SPS): 350K; Interface: Ser; Automotive Qualified: Yes; DatasheetVersion: Rev.B; PackageVersion: 060706-A; PackageReference: RW-20; PackageDescription: 20-Lead Standard Small Outline Package [SOIC_W] Wide Body; RoHS: N; Packing: Tube; Mounting Technology: Surface Mount; Code_JEDEC: MS-013-AC; ComponentLink1Description: Manufacturer URL; ComponentLink1URL: http://www.analog.com/en/index.html; ComponentLink2Description: Datasheet; ComponentLink2URL: http://www.analog.com/static/imported-files/data_sheets/AD7811_7812.pdf; ComponentLink3Description: Package Specification; ComponentLink3URL: http://www.analog.com/static/imported-files/packages/233848RW_20.pdf; ComponentLink4Description: Product URL; ComponentLink4URL: http://www.analog.com/en/analog-to-digital-converters/ad-converters/ad7812/products/product.html
footprint RW-20_N (SOIC, 20-Leads, Body 12.8x7.5mm, Pitch 1.27mm, IPC Medium Density)
footprint RW-20_L (SOIC, 20-Leads, Body 12.8x7.5mm, Pitch 1.27mm, IPC High Density)
footprint RW-20_M (SOIC, 20-Leads, Body 12.8x7.5mm, Pitch 1.27mm, IPC Low Density)
pins: 1 VREF (in) "An external reference input can be applied here. When using an external precision reference or VDD the EXTREF bit in the control register must be set to logic one. The external reference input range is 1.2 V to VDD.", 2 CREF "Reference Capacitor. A capacitor (10 nF) is connected here to improve the noise performance of the on-chip reference.", 3 VIN1 (in) "Analog Inputs. The analog input range is 0 V to VREF.", 4 AGND (power) "Analog Ground. Ground reference for track/hold, comparator, on-chip reference and DAC.", 5 VIN2 (in) "Analog Inputs. The analog input range is 0 V to VREF.", 6 VIN3 (in) "Analog Inputs. The analog input range is 0 V to VREF.", 7 VIN4 (in) "Analog Inputs. The analog input range is 0 V to VREF.", 8 VIN5 (in) "Analog Inputs. The analog input range is 0 V to VREF.", 9 VIN6 (in) "Analog Inputs. The analog input range is 0 V to VREF.", 10 VIN7 (in) "Analog Inputs. The analog input range is 0 V to VREF.", 11 VIN8 (in) "Analog Inputs. The analog input range is 0 V to VREF.", 12 A0 (in) "Package Address Pin. This Logic Input can be hardwired high or low. When used in conjunction with the package address bit in the control register this input allows two devices to share the same serial bus. For example a (See Datasheet)", 13 DGND (power) "Digital Ground. Ground reference for digital circuitry", 14 TFS (in) "Transmit Frame Sync. The falling edge of this Logic Input tells the part that a new control byte should be shifted in on the next 10 falling edges of SCLK.", 15 RFS (in) "Receive Frame Sync. The rising edge of this Logic Input is used to enable a counter in the serial interface. It is used to provide compatibility with DSPs which use a continuous serial clock and framing signal. In (See Datasheet)", 16 DOUT (hiz) "Serial Data Output. Serial data is shifted out on this pin on the rising edge of the serial clock. The output enters a High impedance condition on the rising edge of the 11th SCLK pulse.", 17 DIN (in) "Serial Data Input. The control byte is read in at this input. In order to complete a serial write operation 13 SCLK pulses need to be provided. Only the first 10 bits are shifted in--see Serial Interface section.", 18 SCLK (in) "Serial Clock Input. An external serial clock is applied to this input to obtain serial data from the AD7811/AD7812 and also to latch data into the AD7811/AD7812. Data is clocked out on the rising edge of SCLK and latched in (See Datasheet)", 19 ~{CONVST} (in) "Convert Start. This is an edge triggered logic input. The Track/Hold goes into its Hold Mode on the falling edge of this signal and a conversion is initiated. The state of this pin at the end of conversion also determines (See Datasheet)", 20 VDD (power) "Positive Supply Voltage 2.7 V to 5.5 V."

## AD7812YR-REEL
designator U?
Octal 10-Bit Sampling Analog-to-Digital Converter with Serial Interface, 2.7 V to 5.5 V, 350KSPS, -40 to +105 degC, RW-20, Reel; Part Number: AD7812; Manufacturer: Analog Devices; Resolution (Bits): 10; Channels: 8; Throughput Rate (SPS): 350K; Interface: Ser; Automotive Qualified: Yes; DatasheetVersion: Rev.B; PackageVersion: 060706-A; PackageReference: RW-20; PackageDescription: 20-Lead Standard Small Outline Package [SOIC_W] Wide Body; RoHS: N; Packing: Reel; Mounting Technology: Surface Mount; Code_JEDEC: MS-013-AC; ComponentLink1Description: Manufacturer URL; ComponentLink1URL: http://www.analog.com/en/index.html; ComponentLink2Description: Datasheet; ComponentLink2URL: http://www.analog.com/static/imported-files/data_sheets/AD7811_7812.pdf; ComponentLink3Description: Package Specification; ComponentLink3URL: http://www.analog.com/static/imported-files/packages/233848RW_20.pdf; ComponentLink4Description: Product URL; ComponentLink4URL: http://www.analog.com/en/analog-to-digital-converters/ad-converters/ad7812/products/product.html
footprint RW-20_N (SOIC, 20-Leads, Body 12.8x7.5mm, Pitch 1.27mm, IPC Medium Density)
footprint RW-20_L (SOIC, 20-Leads, Body 12.8x7.5mm, Pitch 1.27mm, IPC High Density)
footprint RW-20_M (SOIC, 20-Leads, Body 12.8x7.5mm, Pitch 1.27mm, IPC Low Density)
pins: 1 VREF (in) "An external reference input can be applied here. When using an external precision reference or VDD the EXTREF bit in the control register must be set to logic one. The external reference input range is 1.2 V to VDD.", 2 CREF "Reference Capacitor. A capacitor (10 nF) is connected here to improve the noise performance of the on-chip reference.", 3 VIN1 (in) "Analog Inputs. The analog input range is 0 V to VREF.", 4 AGND (power) "Analog Ground. Ground reference for track/hold, comparator, on-chip reference and DAC.", 5 VIN2 (in) "Analog Inputs. The analog input range is 0 V to VREF.", 6 VIN3 (in) "Analog Inputs. The analog input range is 0 V to VREF.", 7 VIN4 (in) "Analog Inputs. The analog input range is 0 V to VREF.", 8 VIN5 (in) "Analog Inputs. The analog input range is 0 V to VREF.", 9 VIN6 (in) "Analog Inputs. The analog input range is 0 V to VREF.", 10 VIN7 (in) "Analog Inputs. The analog input range is 0 V to VREF.", 11 VIN8 (in) "Analog Inputs. The analog input range is 0 V to VREF.", 12 A0 (in) "Package Address Pin. This Logic Input can be hardwired high or low. When used in conjunction with the package address bit in the control register this input allows two devices to share the same serial bus. For example a (See Datasheet)", 13 DGND (power) "Digital Ground. Ground reference for digital circuitry", 14 TFS (in) "Transmit Frame Sync. The falling edge of this Logic Input tells the part that a new control byte should be shifted in on the next 10 falling edges of SCLK.", 15 RFS (in) "Receive Frame Sync. The rising edge of this Logic Input is used to enable a counter in the serial interface. It is used to provide compatibility with DSPs which use a continuous serial clock and framing signal. In (See Datasheet)", 16 DOUT (hiz) "Serial Data Output. Serial data is shifted out on this pin on the rising edge of the serial clock. The output enters a High impedance condition on the rising edge of the 11th SCLK pulse.", 17 DIN (in) "Serial Data Input. The control byte is read in at this input. In order to complete a serial write operation 13 SCLK pulses need to be provided. Only the first 10 bits are shifted in--see Serial Interface section.", 18 SCLK (in) "Serial Clock Input. An external serial clock is applied to this input to obtain serial data from the AD7811/AD7812 and also to latch data into the AD7811/AD7812. Data is clocked out on the rising edge of SCLK and latched in (See Datasheet)", 19 ~{CONVST} (in) "Convert Start. This is an edge triggered logic input. The Track/Hold goes into its Hold Mode on the falling edge of this signal and a conversion is initiated. The state of this pin at the end of conversion also determines (See Datasheet)", 20 VDD (power) "Positive Supply Voltage 2.7 V to 5.5 V."